# Altium footprint library LED_FOOTPRINTS.PcbLib: 38 footprints (part 3 of 3)
Each footprint in its own frame and in the unit in brackets; x right, y up, seen from the top. Pads: shape width x height; smd on the part's side, far side on the other; paste and mask are expansions set on the pad; w line width, h text height; cw(c..) or ccw(c..) is an arc to the next point about the centre after c.
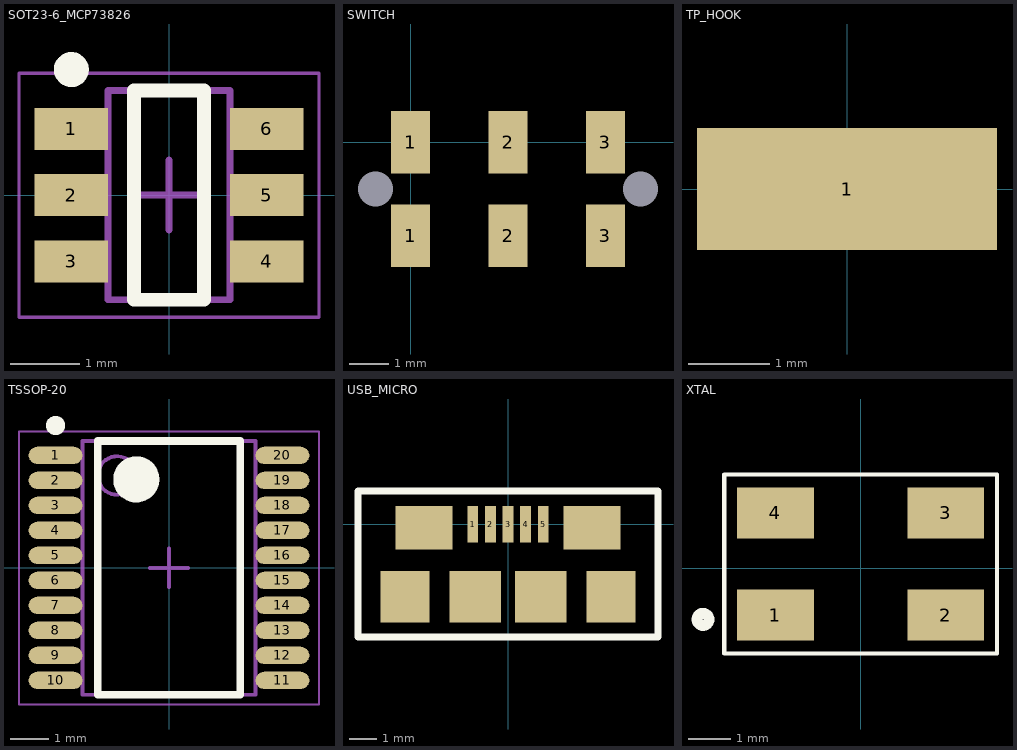
[diagram p2: the footprints below, top view; thin cyan lines are the x and y axes]

## SOT23-6_MCP73826 [mm] "SOT23, 6-Leads, Body 2.90x2.80mm, Pitch 0.95mm, IPC Medium Density"
height 1.45
pads (6):
  rect 1.05x0.6 smd: 1(-1.4,0.95) 2(-1.4,0) 3(-1.4,-0.95) 4(1.4,-0.95) 5(1.4,0) 6(1.4,0.95)
Top Overlay:
  circle w0.25: c-1.4,1.8 r0.125
  lines w0.2: -0.5,-1.5 -0.5,1.5 0.5,1.5 0.5,-1.5 -0.5,-1.5
Mechanical 13:
  lines w0.1: -0.875,-1.5 0.875,-1.5 0.875,1.5 -0.875,1.5 -0.875,-1.5
Mechanical 15:
  lines w0.05: -2.15,-1.75 2.15,-1.75 2.15,1.75 -2.15,1.75 -2.15,-1.75
  lines w0.1: -0.5,0 0.5,0 ; 0,-0.5 0,0.5
3D body "SOT95P280X145-6N.step": height 1.45, standoff 0, extent -1.55,-1.5 1.55,1.5

## SWITCH [mm]
pads (8):
  rect 1x1.6 smd: 1(0,-2.4) 1(0,0) 2(2.5,-2.4) 2(2.5,0) 3(5,-2.4) 3(5,0)
  rect 0x0 hole 0.9 unplated: ""(-0.9,-1.2) ""(5.9,-1.2)
3D body "JS202011JAQN.stp": height 3.57, standoff -0.73, extent -2,-4.95 7,0.6

## TP_HOOK [mm]
pads (1):
  rect 3.7x1.5 smd: 1(0,0)
3D body "keystone-PN5015.STEP": height 1.52, standoff 0, extent -1.562,-0.508 1.562,0.508

## TSSOP-20 [mm] "TSOP, 20-Leads, Body 6.50x4.40mm, Pitch 0.65mm, IPC Medium Density"
height 1.2
pads (20):
  oval 1.4x0.45 smd: 1(-2.95,2.925) 2(-2.95,2.275) 3(-2.95,1.625) 4(-2.95,0.975) 5(-2.95,0.325) 6(-2.95,-0.325) 7(-2.95,-0.975) 8(-2.95,-1.625) 9(-2.95,-2.275) 10(-2.95,-2.925) 11(2.95,-2.925) 12(2.95,-2.275) 13(2.95,-1.625) 14(2.95,-0.975) 15(2.95,-0.325) 16(2.95,0.325) 17(2.95,0.975) 18(2.95,1.625) 19(2.95,2.275) 20(2.95,2.925)
Top Overlay:
  circle w0.25: c-2.95,3.7 r0.125
  circle w0.6: c-0.85,2.3 r0.3
  lines w0.2: -1.85,-3.3 -1.85,3.3 1.85,3.3 1.85,-3.3 -1.85,-3.3
Mechanical 13:
  circle w0.1: c-1.35,2.4 r0.5
  lines w0.1: -2.25,-3.3 -2.25,3.3 2.25,3.3 2.25,-3.3 -2.25,-3.3
Mechanical 15:
  lines w0.05: -3.9,-3.55 -3.9,3.55 3.9,3.55 3.9,-3.55 -3.9,-3.55
  lines w0.1: -0.5,0 0.5,0 ; 0,-0.5 0,0.5
3D body "TSOP65P640X120-20N.step": height 1.2, standoff 0, extent -3.2,-3.3 3.2,3.3

## USB_MICRO [mm]
pads (11):
  rect 0.4x1.35 smd: 1(-1.3,0) 3(0,0) 4(0.65,0) 5(1.3,0)
  rect 0.4x1.355 smd: 2(-0.65,0)
  rect 1.8x1.9 smd: ""(-3.8,-2.675) ""(3.8,-2.675)
  rect 2.1x1.6 smd: ""(-3.1,-0.125) ""(3.1,-0.125)
  rect 1.9x1.9 smd: ""(-1.2,-2.675) ""(1.2,-2.675)
Top Overlay:
  lines w0.254: -5.525,-4.15 -5.525,1.225 5.525,1.225 5.525,-4.15 -5.525,-4.15
3D body "micro_usb.stp": height 2.74, standoff -0.27, extent -3.956,-5.31 3.956,0.35

## XTAL [mm]
pads (4):
  rect 1.8x1.2 smd: 1(-2,-1.1) 2(2,-1.1) 3(2,1.3) 4(-2,1.3)
Top Overlay:
  circle w0.254: c-3.7,-1.2 r0.141
  lines w0.1: -3.2,-2 -3.2,2.2 3.2,2.2 3.2,-2 -3.2,-2
3D body "ABM3B.STEP": height 1.1, standoff -0.01, extent -2.5,-1.487 2.5,1.688